# EAGLE library part EP2C8_PQ208 (library SparkFun)
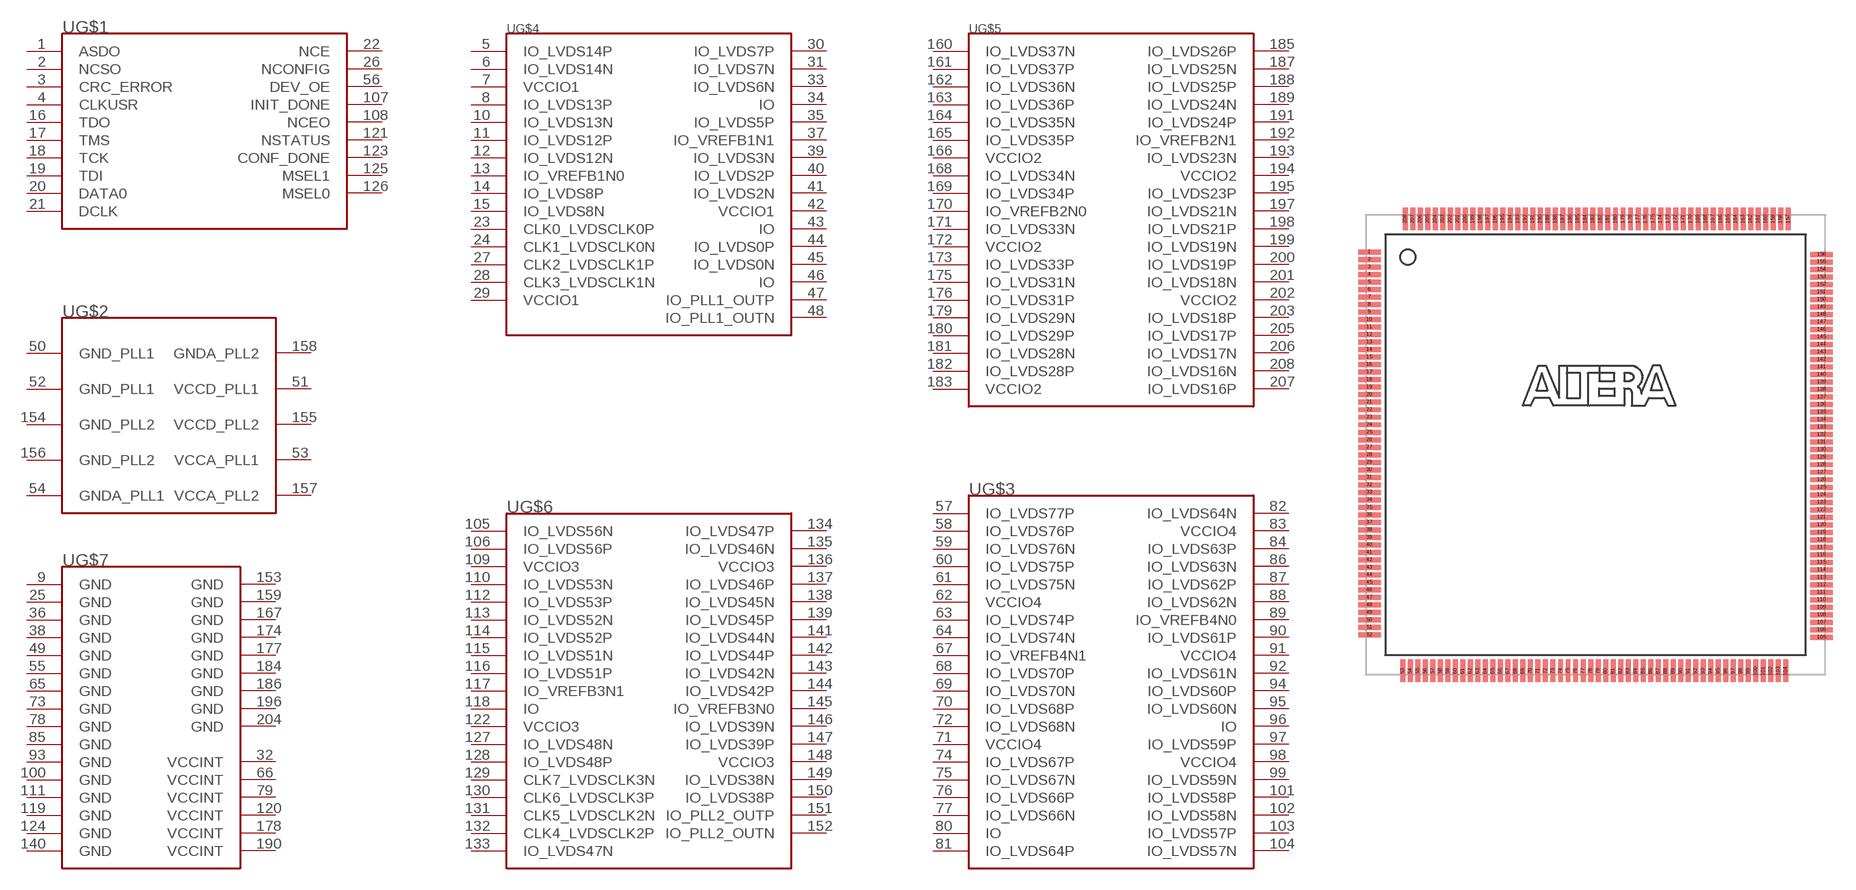
[diagram p121: symbol with the pads of PQFP208; footprint PQFP208]

Designator prefix -; gates G$2=EP2C20_PQ208_PLL G$6=EP2C20_PQ208_B3 G$4=EP2C20_PQ208_B1 G$3=EP2C20_PQ208_B4 G$7=EP2C20_PQ208_POWER G$5=EP2C20_PQ208_B2 G$1=EP2C20_PQ208_CONFIG

## EP2C8_PQ208  [PQFP208]
1  G$1:ASDO
2  G$1:NCSO
3  G$1:CRC_ERROR
4  G$1:CLKUSR
5  G$4:IO_LVDS14P
6  G$4:IO_LVDS14N
7  G$4:VCCIO1
8  G$4:IO_LVDS13P
9  G$7:GND  pwr
10  G$4:IO_LVDS13N
11  G$4:IO_LVDS12P
12  G$4:IO_LVDS12N
13  G$4:IO_VREFB1N0
14  G$4:IO_LVDS8P
15  G$4:IO_LVDS8N
16  G$1:TDO
17  G$1:TMS
18  G$1:TCK
19  G$1:TDI
20  G$1:DATA0
21  G$1:DCLK
22  G$1:NCE
23  G$4:CLK0_LVDSCLK0P
24  G$4:CLK1_LVDSCLK0N
25  G$7:GND  pwr
26  G$1:NCONFIG
27  G$4:CLK2_LVDSCLK1P
28  G$4:CLK3_LVDSCLK1N
29  G$4:VCCIO1
30  G$4:IO_LVDS7P
31  G$4:IO_LVDS7N
32  G$7:VCCINT  pwr
33  G$4:IO_LVDS6N
34  G$4:IO
35  G$4:IO_LVDS5P
36  G$7:GND  pwr
37  G$4:IO_VREFB1N1
38  G$7:GND  pwr
39  G$4:IO_LVDS3N
40  G$4:IO_LVDS2P
41  G$4:IO_LVDS2N
42  G$4:VCCIO1
43  G$4:IO
44  G$4:IO_LVDS0P
45  G$4:IO_LVDS0N
46  G$4:IO
47  G$4:IO_PLL1_OUTP
48  G$4:IO_PLL1_OUTN
49  G$7:GND  pwr
50  G$2:GND_PLL1  pwr
51  G$2:VCCD_PLL1  pwr
52  G$2:GND_PLL1  pwr
53  G$2:VCCA_PLL1  pwr
54  G$2:GNDA_PLL1  pwr
55  G$7:GND  pwr
56  G$1:DEV_OE
57  G$3:IO_LVDS77P
58  G$3:IO_LVDS76P
59  G$3:IO_LVDS76N
60  G$3:IO_LVDS75P
61  G$3:IO_LVDS75N
62  G$3:VCCIO4
63  G$3:IO_LVDS74P
64  G$3:IO_LVDS74N
65  G$7:GND  pwr
66  G$7:VCCINT  pwr
67  G$3:IO_VREFB4N1
68  G$3:IO_LVDS70P
69  G$3:IO_LVDS70N
70  G$3:IO_LVDS68P
71  G$3:VCCIO4
72  G$3:IO_LVDS68N
73  G$7:GND  pwr
74  G$3:IO_LVDS67P
75  G$3:IO_LVDS67N
76  G$3:IO_LVDS66P
77  G$3:IO_LVDS66N
78  G$7:GND  pwr
79  G$7:VCCINT  pwr
80  G$3:IO
81  G$3:IO_LVDS64P
82  G$3:IO_LVDS64N
83  G$3:VCCIO4
84  G$3:IO_LVDS63P
85  G$7:GND  pwr
86  G$3:IO_LVDS63N
87  G$3:IO_LVDS62P
88  G$3:IO_LVDS62N
89  G$3:IO_VREFB4N0
90  G$3:IO_LVDS61P
91  G$3:VCCIO4
92  G$3:IO_LVDS61N
93  G$7:GND  pwr
94  G$3:IO_LVDS60P
95  G$3:IO_LVDS60N
96  G$3:IO
97  G$3:IO_LVDS59P
98  G$3:VCCIO4
99  G$3:IO_LVDS59N
100  G$7:GND  pwr
101  G$3:IO_LVDS58P
102  G$3:IO_LVDS58N
103  G$3:IO_LVDS57P
104  G$3:IO_LVDS57N
105  G$6:IO_LVDS56N
106  G$6:IO_LVDS56P
107  G$1:INIT_DONE
108  G$1:NCEO
109  G$6:VCCIO3
110  G$6:IO_LVDS53N
111  G$7:GND  pwr
112  G$6:IO_LVDS53P
113  G$6:IO_LVDS52N
114  G$6:IO_LVDS52P
115  G$6:IO_LVDS51N
116  G$6:IO_LVDS51P
117  G$6:IO_VREFB3N1
118  G$6:IO
119  G$7:GND  pwr
120  G$7:VCCINT  pwr
121  G$1:NSTATUS
122  G$6:VCCIO3
123  G$1:CONF_DONE
124  G$7:GND
125  G$1:MSEL1
126  G$1:MSEL0
127  G$6:IO_LVDS48N
128  G$6:IO_LVDS48P
129  G$6:CLK7_LVDSCLK3N
130  G$6:CLK6_LVDSCLK3P
131  G$6:CLK5_LVDSCLK2N
132  G$6:CLK4_LVDSCLK2P
133  G$6:IO_LVDS47N
134  G$6:IO_LVDS47P
135  G$6:IO_LVDS46N
136  G$6:VCCIO3
137  G$6:IO_LVDS46P
138  G$6:IO_LVDS45N
139  G$6:IO_LVDS45P
140  G$7:GND
141  G$6:IO_LVDS44N
142  G$6:IO_LVDS44P
143  G$6:IO_LVDS42N
144  G$6:IO_LVDS42P
145  G$6:IO_VREFB3N0
146  G$6:IO_LVDS39N
147  G$6:IO_LVDS39P
148  G$6:VCCIO3
149  G$6:IO_LVDS38N
150  G$6:IO_LVDS38P
151  G$6:IO_PLL2_OUTP
152  G$6:IO_PLL2_OUTN
153  G$7:GND
154  G$2:GND_PLL2  pwr
155  G$2:VCCD_PLL2  pwr
156  G$2:GND_PLL2  pwr
157  G$2:VCCA_PLL2  pwr
158  G$2:GNDA_PLL2  pwr
159  G$7:GND
160  G$5:IO_LVDS37N
161  G$5:IO_LVDS37P
162  G$5:IO_LVDS36N
163  G$5:IO_LVDS36P
164  G$5:IO_LVDS35N
165  G$5:IO_LVDS35P
166  G$5:VCCIO2
167  G$7:GND
168  G$5:IO_LVDS34N
169  G$5:IO_LVDS34P
170  G$5:IO_VREFB2N0
171  G$5:IO_LVDS33N
172  G$5:VCCIO2
173  G$5:IO_LVDS33P
174  G$7:GND
175  G$5:IO_LVDS31N
176  G$5:IO_LVDS31P
177  G$7:GND
178  G$7:VCCINT  pwr
179  G$5:IO_LVDS29N
180  G$5:IO_LVDS29P
181  G$5:IO_LVDS28N
182  G$5:IO_LVDS28P
183  G$5:VCCIO2
184  G$7:GND
185  G$5:IO_LVDS26P
186  G$7:GND
187  G$5:IO_LVDS25N
188  G$5:IO_LVDS25P
189  G$5:IO_LVDS24N
190  G$7:VCCINT  pwr
191  G$5:IO_LVDS24P
192  G$5:IO_VREFB2N1
193  G$5:IO_LVDS23N
194  G$5:VCCIO2
195  G$5:IO_LVDS23P
196  G$7:GND
197  G$5:IO_LVDS21N
198  G$5:IO_LVDS21P
199  G$5:IO_LVDS19N
200  G$5:IO_LVDS19P
201  G$5:IO_LVDS18N
202  G$5:VCCIO2
203  G$5:IO_LVDS18P
204  G$7:GND
205  G$5:IO_LVDS17P
206  G$5:IO_LVDS17N
207  G$5:IO_LVDS16P
208  G$5:IO_LVDS16N

## Footprint PQFP208 (pad centres in mm)
smd 1.5 x 0.33: 1 -15.05,12.83; 2 -15.05,12.33; 3 -15.05,11.83; 4 -15.05,11.33; 5 -15.05,10.83; 6 -15.05,10.33; 7 -15.05,9.83; 8 -15.05,9.33; 9 -15.05,8.83; 10 -15.05,8.33; 11 -15.05,7.83; 12 -15.05,7.33; 13 -15.05,6.83; 14 -15.05,6.33; 15 -15.05,5.83; 16 -15.05,5.33; 17 -15.05,4.83; 18 -15.05,4.33; 19 -15.05,3.83; 20 -15.05,3.33; 21 -15.05,2.83; 22 -15.05,2.33; 23 -15.05,1.83; 24 -15.05,1.33; 25 -15.05,0.83; 26 -15.05,0.33; 27 -15.05,-0.17; 28 -15.05,-0.67; 29 -15.05,-1.17; 30 -15.05,-1.67; 31 -15.05,-2.17; 32 -15.05,-2.67; 33 -15.05,-3.17; 34 -15.05,-3.67; 35 -15.05,-4.17; 36 -15.05,-4.67; 37 -15.05,-5.17; 38 -15.05,-5.67; 39 -15.05,-6.17; 40 -15.05,-6.67; 41 -15.05,-7.17; 42 -15.05,-7.67; 43 -15.05,-8.17; 44 -15.05,-8.67; 45 -15.05,-9.17; 46 -15.05,-9.67; 47 -15.05,-10.17; 48 -15.05,-10.67; 49 -15.05,-11.17; 50 -15.05,-11.67; 51 -15.04,-12.17; 52 -15.05,-12.67; 105 15.05,-12.83; 106 15.05,-12.33; 107 15.05,-11.83; 108 15.05,-11.33; 109 15.05,-10.83; 110 15.05,-10.33; 111 15.05,-9.83; 112 15.05,-9.33; 113 15.05,-8.83; 114 15.05,-8.33; 115 15.05,-7.83; 116 15.05,-7.33; 117 15.05,-6.83; 118 15.05,-6.33; 119 15.05,-5.83; 120 15.05,-5.33; 121 15.05,-4.83; 122 15.05,-4.33; 123 15.05,-3.83; 124 15.05,-3.33; 125 15.05,-2.83; 126 15.05,-2.33; 127 15.05,-1.83; 128 15.05,-1.33; 129 15.05,-0.83; 130 15.05,-0.33; 131 15.05,0.17; 132 15.05,0.67; 133 15.05,1.17; 134 15.05,1.67; 135 15.05,2.17; 136 15.05,2.67; 137 15.05,3.17; 138 15.05,3.67; 139 15.05,4.17; 140 15.05,4.67; 141 15.05,5.17; 142 15.05,5.67; 143 15.05,6.17; 144 15.05,6.67; 145 15.05,7.17; 146 15.05,7.67; 147 15.05,8.17; 148 15.05,8.67; 149 15.05,9.17; 150 15.05,9.67; 151 15.05,10.17; 152 15.05,10.67; 153 15.05,11.17; 154 15.05,11.67; 155 15.04,12.17; 156 15.05,12.67
smd 0.33 x 1.5: 53 -12.83,-15.05; 54 -12.33,-15.05; 55 -11.83,-15.05; 56 -11.33,-15.05; 57 -10.83,-15.05; 58 -10.33,-15.05; 59 -9.83,-15.05; 60 -9.33,-15.05; 61 -8.83,-15.05; 62 -8.33,-15.05; 63 -7.83,-15.05; 64 -7.33,-15.05; 65 -6.83,-15.05; 66 -6.33,-15.05; 67 -5.83,-15.05; 68 -5.33,-15.05; 69 -4.83,-15.05; 70 -4.33,-15.05; 71 -3.83,-15.05; 72 -3.33,-15.05; 73 -2.83,-15.05; 74 -2.33,-15.05; 75 -1.83,-15.05; 76 -1.33,-15.05; 77 -0.83,-15.05; 78 -0.33,-15.05; 79 0.17,-15.05; 80 0.67,-15.05; 81 1.17,-15.05; 82 1.67,-15.05; 83 2.17,-15.05; 84 2.67,-15.05; 85 3.17,-15.05; 86 3.67,-15.05; 87 4.17,-15.05; 88 4.67,-15.05; 89 5.17,-15.05; 90 5.67,-15.05; 91 6.17,-15.05; 92 6.67,-15.05; 93 7.17,-15.05; 94 7.67,-15.05; 95 8.17,-15.05; 96 8.67,-15.05; 97 9.17,-15.05; 98 9.67,-15.05; 99 10.17,-15.05; 100 10.67,-15.05; 101 11.17,-15.05; 102 11.67,-15.05; 103 12.17,-15.04; 104 12.67,-15.05; 157 12.83,15.05; 158 12.33,15.05; 159 11.83,15.05; 160 11.33,15.05; 161 10.83,15.05; 162 10.33,15.05; 163 9.83,15.05; 164 9.33,15.05; 165 8.83,15.05; 166 8.33,15.05; 167 7.83,15.05; 168 7.33,15.05; 169 6.83,15.05; 170 6.33,15.05; 171 5.83,15.05; 172 5.33,15.05; 173 4.83,15.05; 174 4.33,15.05; 175 3.83,15.05; 176 3.33,15.05; 177 2.83,15.05; 178 2.33,15.05; 179 1.83,15.05; 180 1.33,15.05; 181 0.83,15.05; 182 0.33,15.05; 183 -0.17,15.05; 184 -0.67,15.05; 185 -1.17,15.05; 186 -1.67,15.05; 187 -2.17,15.05; 188 -2.67,15.05; 189 -3.17,15.05; 190 -3.67,15.05; 191 -4.17,15.05; 192 -4.67,15.05; 193 -5.17,15.05; 194 -5.67,15.05; 195 -6.17,15.05; 196 -6.67,15.05; 197 -7.17,15.05; 198 -7.67,15.05; 199 -8.17,15.05; 200 -8.67,15.05; 201 -9.17,15.05; 202 -9.67,15.05; 203 -10.17,15.05; 204 -10.67,15.05; 205 -11.17,15.05; 206 -11.67,15.05; 207 -12.168,15.049; 208 -12.67,15.05